# Altium schematic symbol library sch_comp.SchLib: 21 symbols
Pins are listed as number, name and electrical type; pins without a type are passive.

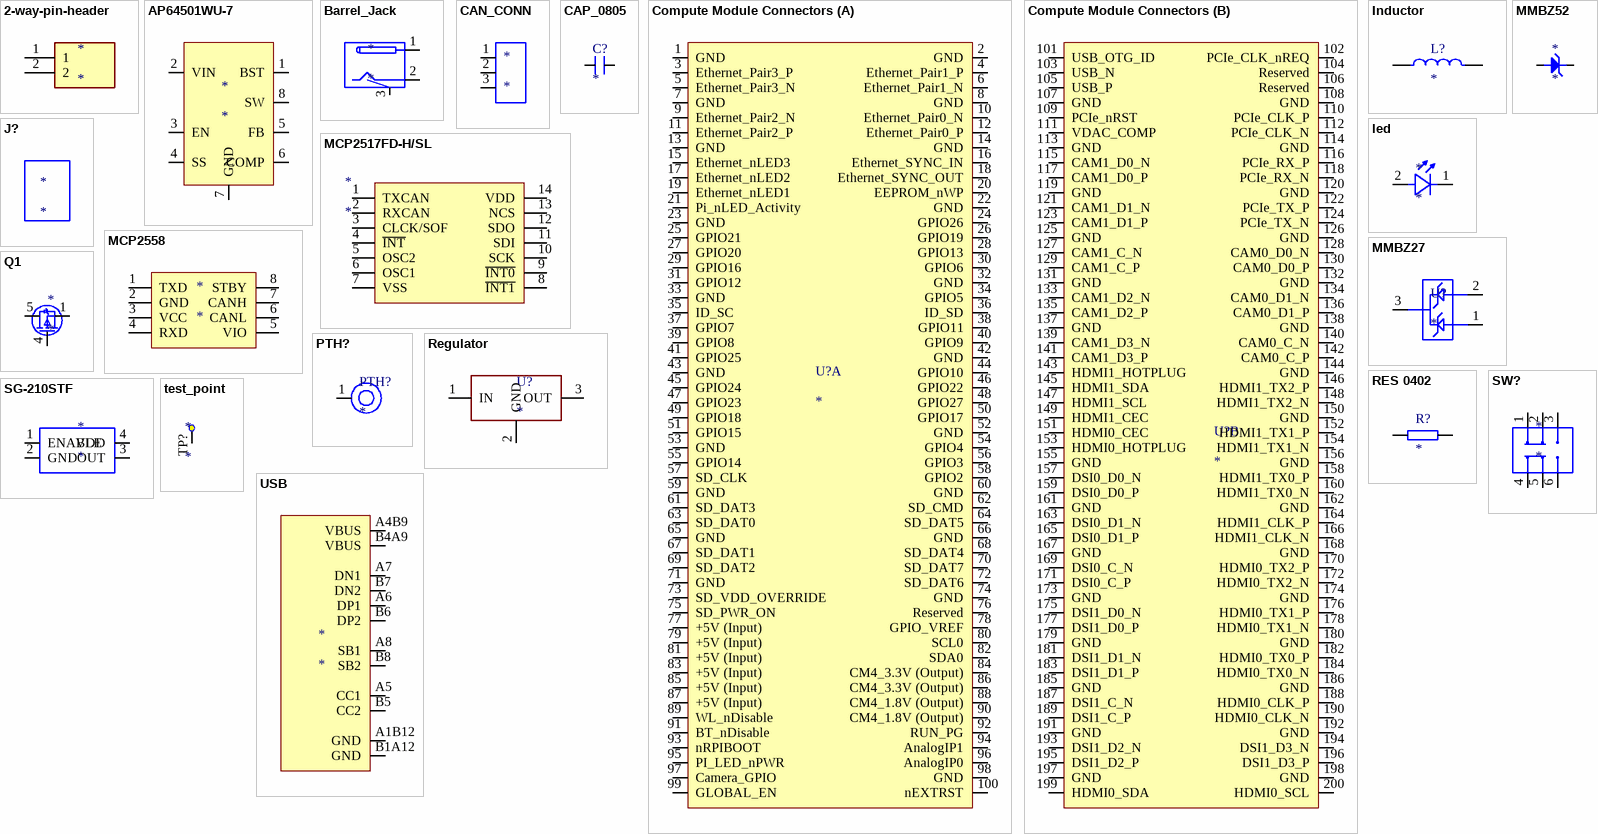
[diagram p0: symbols 2-way-pin-header to USB]

## 2-way-pin-header
designator *
footprint HDRV2W66P0X254_1X2_508X249X1067P
pins: 1, 2

## AP64501WU-7
designator *
Manufacturer: Diodes; Manufacturer Part Number: AP64060WU-7; Supplier: Digikey; Supplier Part Number: 31-AP64060WU-7CT-ND; RoHS: No; Category: Voltage Regulators - Switching; Stock: 6070; Pricing: 1=0.62, 10=0.531, 25=0.496, 100=0.3968, 250=0.36844, 500=0.31174, 1000=0.2409 (USD)
footprint AP60501
pins: 1 BST, 2 VIN, 3 EN, 4 SS, 5 FB, 6 COMP, 7 GND, 8 SW

## Barrel_Jack
designator *
footprint power jack
pins: 1, 2 10, 3

## CAN_CONN
designator *
footprint Terminal
pins: 1 CAN_H, 2 22, 3 23

## CAP_0805
designator C?
footprint CAP_0805
pins: 1, 2

## Compute Module Connectors
designator U?
footprint CM4-DF40HC(3.0)-100DS-0.4v_3mm_1.5mm_NO_Outline-3D (DF40HC(3.0)-100DS-0.4v by Amornthep Phunsin)
part A pins: 1 GND, 2 GND, 3 Ethernet_Pair3_P, 4 Ethernet_Pair1_P, 5 Ethernet_Pair3_N, 6 Ethernet_Pair1_N, 7 GND, 8 GND, 9 Ethernet_Pair2_N, 10 Ethernet_Pair0_N, 11 Ethernet_Pair2_P, 12 Ethernet_Pair0_P, 13 GND, 14 GND, 15 Ethernet_nLED3, 16 Ethernet_SYNC_IN, 17 Ethernet_nLED2, 18 Ethernet_SYNC_OUT, 19 Ethernet_nLED1, 20 EEPROM_nWP, 21 Pi_nLED_Activity, 22 GND, 23 GND, 24 GPIO26, 25 GPIO21, 26 GPIO19, 27 GPIO20, 28 GPIO13, 29 GPIO16, 30 GPIO6, 31 GPIO12, 32 GND, 33 GND, 34 GPIO5, 35 ID_SC, 36 ID_SD, 37 GPIO7, 38 GPIO11, 39 GPIO8, 40 GPIO9, 41 GPIO25, 42 GND, 43 GND, 44 GPIO10, 45 GPIO24, 46 GPIO22, 47 GPIO23, 48 GPIO27, 49 GPIO18, 50 GPIO17, 51 GPIO15, 52 GND, 53 GND, 54 GPIO4, 55 GPIO14, 56 GPIO3, 57 SD_CLK, 58 GPIO2, 59 GND, 60 GND, 61 SD_DAT3, 62 SD_CMD, 63 SD_DAT0, 64 SD_DAT5, 65 GND, 66 GND, 67 SD_DAT1, 68 SD_DAT4, 69 SD_DAT2, 70 SD_DAT7, 71 GND, 72 SD_DAT6, 73 SD_VDD_OVERRIDE, 74 GND, 75 SD_PWR_ON, 76 Reserved, 77 +5V (Input), 78 GPIO_VREF, 79 +5V (Input), 80 SCL0, 81 +5V (Input), 82 SDA0, 83 +5V (Input), 84 CM4_3.3V (Output), 85 +5V (Input), 86 CM4_3.3V (Output), 87 +5V (Input), 88 CM4_1.8V (Output), 89 WL_nDisable, 90 CM4_1.8V (Output), 91 BT_nDisable, 92 RUN_PG, 93 nRPIBOOT, 94 AnalogIP1, 95 PI_LED_nPWR, 96 AnalogIP0, 97 Camera_GPIO, 98 GND, 99 GLOBAL_EN, 100 nEXTRST
part B pins: 101 USB_OTG_ID, 102 PCIe_CLK_nREQ, 103 USB_N, 104 Reserved, 105 USB_P, 106 Reserved, 107 GND, 108 GND, 109 PCIe_nRST, 110 PCIe_CLK_P, 111 VDAC_COMP, 112 PCIe_CLK_N, 113 GND, 114 GND, 115 CAM1_D0_N, 116 PCIe_RX_P, 117 CAM1_D0_P, 118 PCIe_RX_N, 119 GND, 120 GND, 121 CAM1_D1_N, 122 PCIe_TX_P, 123 CAM1_D1_P, 124 PCIe_TX_N, 125 GND, 126 GND, 127 CAM1_C_N, 128 CAM0_D0_N, 129 CAM1_C_P, 130 CAM0_D0_P, 131 GND, 132 GND, 133 CAM1_D2_N, 134 CAM0_D1_N, 135 CAM1_D2_P, 136 CAM0_D1_P, 137 GND, 138 GND, 139 CAM1_D3_N, 140 CAM0_C_N, 141 CAM1_D3_P, 142 CAM0_C_P, 143 HDMI1_HOTPLUG, 144 GND, 145 HDMI1_SDA, 146 HDMI1_TX2_P, 147 HDMI1_SCL, 148 HDMI1_TX2_N, 149 HDMI1_CEC, 150 GND, 151 HDMI0_CEC, 152 HDMI1_TX1_P, 153 HDMI0_HOTPLUG, 154 HDMI1_TX1_N, 155 GND, 156 GND, 157 DSI0_D0_N, 158 HDMI1_TX0_P, 159 DSI0_D0_P, 160 HDMI1_TX0_N, 161 GND, 162 GND, 163 DSI0_D1_N, 164 HDMI1_CLK_P, 165 DSI0_D1_P, 166 HDMI1_CLK_N, 167 GND, 168 GND, 169 DSI0_C_N, 170 HDMI0_TX2_P, 171 DSI0_C_P, 172 HDMI0_TX2_N, 173 GND, 174 GND, 175 DSI1_D0_N, 176 HDMI0_TX1_P, 177 DSI1_D0_P, 178 HDMI0_TX1_N, 179 GND, 180 GND, 181 DSI1_D1_N, 182 HDMI0_TX0_P, 183 DSI1_D1_P, 184 HDMI0_TX0_N, 185 GND, 186 GND, 187 DSI1_C_N, 188 HDMI0_CLK_P, 189 DSI1_C_P, 190 HDMI0_CLK_N, 191 GND, 192 GND, 193 DSI1_D2_N, 194 DSI1_D3_N, 195 DSI1_D2_P, 196 DSI1_D3_P, 197 GND, 198 GND, 199 HDMI0_SDA, 200 HDMI0_SCL

## Inductor
designator L?
footprint L_0805
pins: 1, 2

## J?
designator *

## led
designator *
https://ro.farnell.com/wurth-elektronik/150080gs75000/led-0805-green-450mcd-520nm/dp/2322076?gross_price=true&CMP=KNC-GRO-GEN-SHOPPING-PMax_Test_840_MediumMargin&mckv=_dc%7Cpcrid%7C%7Cplid%7C%7Ckword%7C%7Cmatch%7C%7Cslid%7C%7Cproduct%7C2322076%7Cpgrid%7C%7Cptaid%7C%7C&gad_source=1&gclid=Cj0KCQjwjLGyBhCYARIsAPqTz18Amj4u5qMw452dzp4QFbvRWjaA25yZdq1iP5S9VaglDibMucql-VwaApB3EALw_wcB
footprint LED_fp (https://ro.farnell.com/wurth-elektronik/150080gs75000/led-0805-green-450mcd-520nm/dp/2322076?gross_price=true&CMP=KNC-GRO-GEN-SHOPPING-PMax_Test_840_MediumMargin&mckv=_dc%7Cpcrid%7C%7Cplid%7C%7Ckword%7C%7Cmatch%7C%7Cslid%7C%7Cproduct%7C2322076%7Cpgrid%7C%7Cptaid%7C%7C&gad_source=1&gclid=Cj0KCQjwjLGyBhCYARIsAPqTz18Amj4u5qMw452dzp4QFbvRWjaA25yZdq1iP5S9VaglDibMucql-VwaApB3EALw_wcB)
pins: 1 8, 2 9

## MCP2517FD-H/SL
designator *
footprint MCP2517FD_SOIC14 (SOIC, 14-Leads, Body 8.65x3.90mm, Pitch 1.27mm, IPC Medium Density)
pins: 1 TXCAN, 2 RXCAN, 3 CLCK/SOF, 4 ~{INT}, 5 OSC2, 6 OSC1, 7 VSS, 8 ~{INT1}, 9 ~{INT0}, 10 SCK, 11 SDI, 12 SDO, 13 NCS, 14 VDD

## MCP2558
designator *
footprint MCP2557_SOIC8
pins: 1 TXD, 2 GND, 3 VCC, 4 RXD, 5 VIO, 6 CANL, 7 CANH, 8 STBY

## MMBZ27
designator U?
footprint Zenner_MMBZ15 (SOT23, 3-Leads, Body 2.90x2.35mm, Pitch 0.95mm, IPC Medium Density)
pins: 1, 2, 3

## MMBZ52
designator *
footprint MMBZ52
pins: 1 Anode, 3 Cathode

## PTH?
designator PTH?
Mounting Hole, 2.5mm
footprint mh_fp
pins: 1

## Q1
designator *
footprint DMP3036SFV7
pins: 1, 2, 3, 4, 5, 6, 7, 8, 9

## Regulator
designator U?
CJ117 or TC1108
footprint TC1108 (SOT223, 4-Leads, Body 6.50x7.00mm (avg), Pitch 2.30mm, IPC Medium Density)
pins: 1 IN, 2 GND, 3 OUT

## RES 0402
designator R?
footprint RES0402 (Chip Resistor, 2-Leads, Body 1.00x0.50mm, IPC Medium Density)
pins: 1, 2

## SG-210STF
designator *
footprint Osc
pins: 1 ENABLE, 2 GND, 3 OUT, 4 VDD

## SW?
designator *
footprint EG1271
pins: 1 15, 2 16, 3 17, 4 6, 5 19, 6 18

## test_point
designator *
footprint Test_point (Reference point)
pins: TP? Test Point

## USB
designator *
Type C, 20 VDC, 3 A, Right Angle; Manufacturer: CUI Devices; Manufacturer Part Number: UJC-HP2-3-SMT-TR; Supplier: Mouser; Supplier Part Number: 179-UJC-HP2-3-SMT-TR; RoHS: No; Category: Uncategorized; Stock: 1789; Pricing: 1=0.58, 10=0.506, 50=0.506, 100=0.418, 1000=0.299, 10000=0.245 (USD)
footprint USB4105-GF-A-060
pins: A1B12 GND, A4B9 VBUS, A5 CC1, A6 DP1, A7 DN1, A8 SB1, B1A12 GND, B4A9 VBUS, B5 CC2, B6 DP2, B7 DN2, B8 SB2